# EAGLE library part IC_DS1307 (library akita)
Maxim's DS1307, RTC
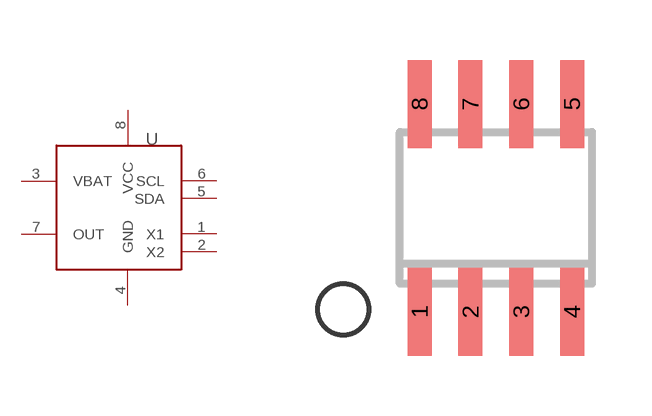
[diagram p182: symbol with the pads of SO08; footprint SO08]

Designator prefix U

## IC_DS1307S  [SO08]
1  X1
2  X2
3  VBAT
4  GND
5  SDA
6  SCL
7  OUT
8  VCC

## Footprint SO08 (pad centres in mm)
SMALL OUTLINE INTEGRATED CIRCUIT body 3.9 mm/JEDEC MS-012AA
smd 0.6 x 2.2: 1 -1.905,-2.6; 2 -0.635,-2.6; 3 0.635,-2.6; 4 1.905,-2.6; 5 1.905,2.6; 6 0.635,2.6; 7 -0.635,2.6; 8 -1.905,2.6